# Altium footprint library Pcblib_20110825.Pcblib: 408 footprints (part 5 of 26)
Each footprint in its own frame and in the unit in brackets; x right, y up, seen from the top. Pads: shape width x height; smd on the part's side, far side on the other; paste and mask are expansions set on the pad; w line width, h text height; cw(c..) or ccw(c..) is an arc to the next point about the centre after c.
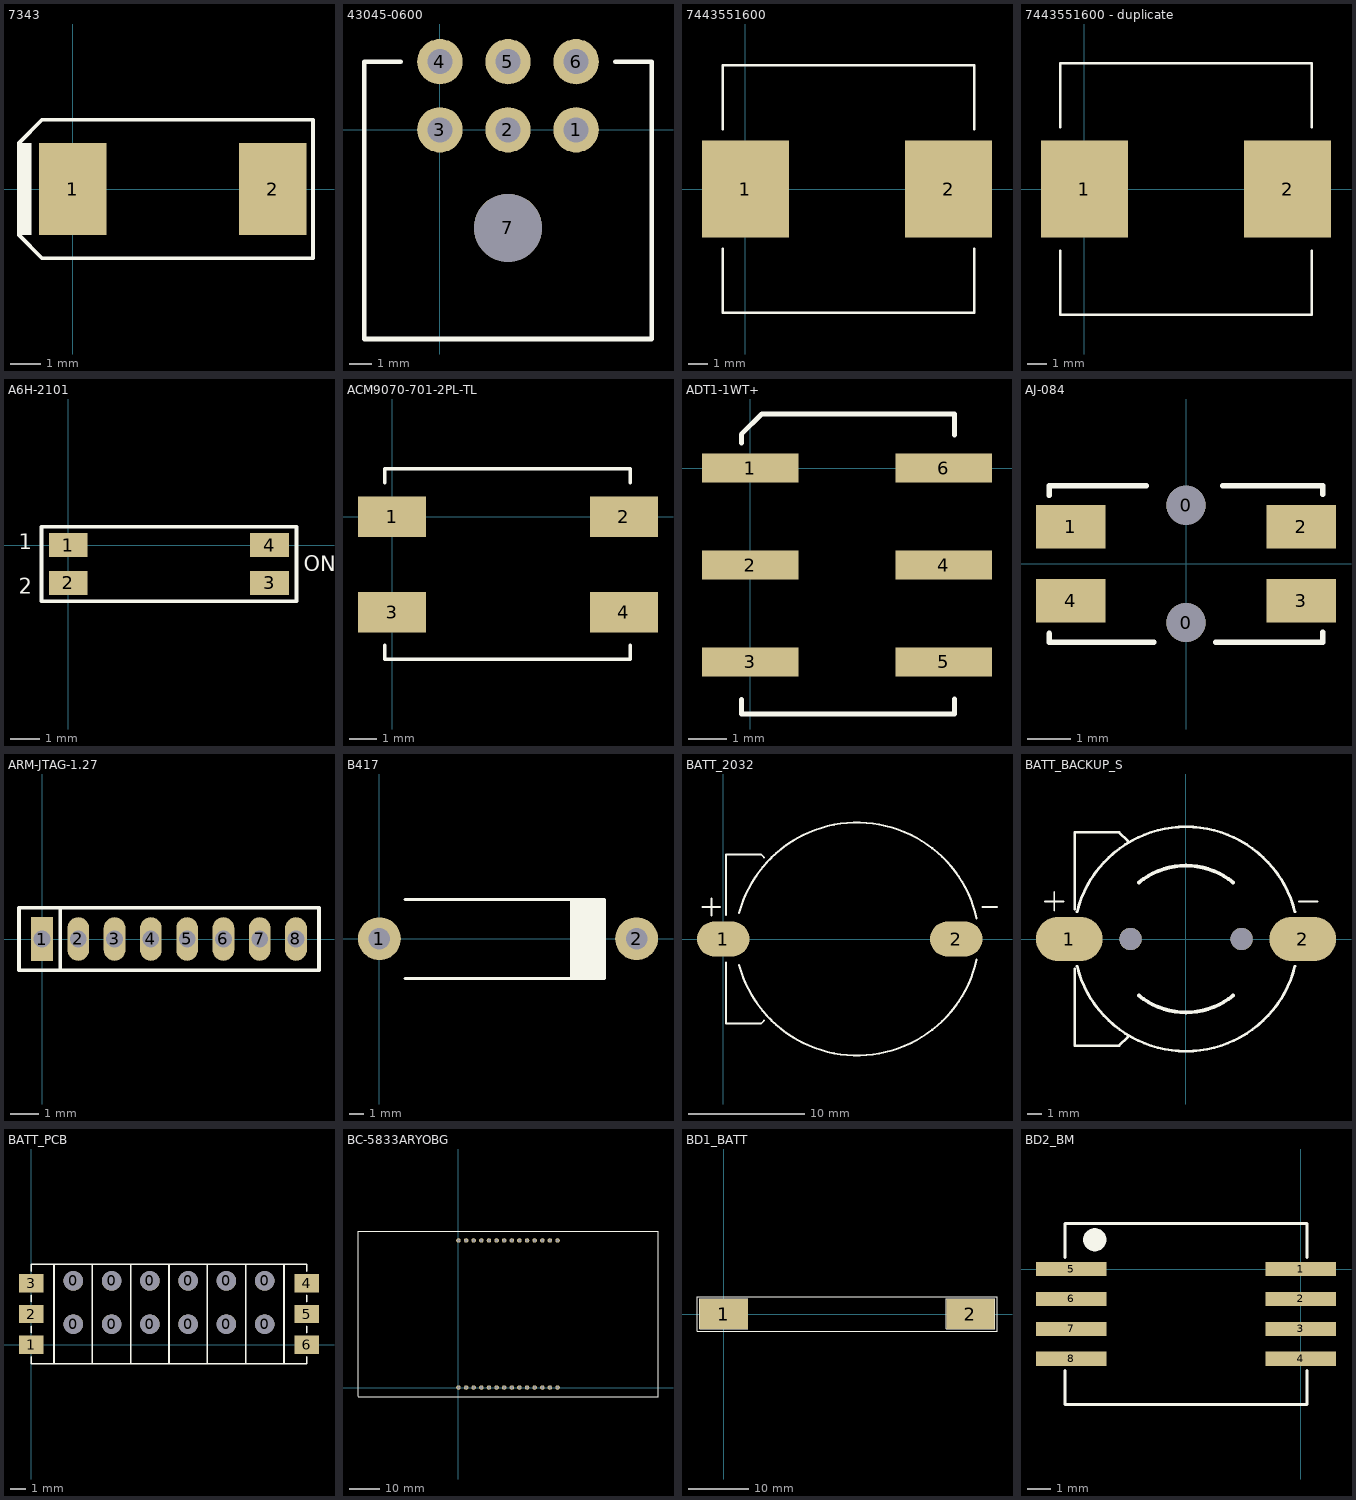
[diagram p4: the footprints below, top view; thin cyan lines are the x and y axes]

## 7343 [mm]
pads (2):
  rect 2.2x3 smd: 1(0,0) 2(6.5,0)
TopOverlay:
  rectangle: -1.75,-1.5 -1.35,1.5
  lines w0.127: -1.75,-1.5 -1,-2.25 7.8,-2.25 7.8,2.25 -1,2.25 -1.75,1.5 -1.75,-1.5

## 43045-0600 [mm]
pads (7):
  round 2 hole 1.1: 1(6,0) 2(3,0) 3(0,0) 4(0,3) 5(3,3) 6(6,3)
  round 3 hole 3: 7(3,-4.32)
TopOverlay:
  lines w0.2: -3.325,-7.544 -3.325,2.997 -1.727,2.997 ; -3.325,-7.493 -3.325,-9.22 9.325,-9.22 9.325,-5.156 ; 7.722,2.997 9.325,2.997 9.325,-5.715

## 7443551600 [mm]
pads (2):
  rect 4.5x5 smd: 1(0,0) 2(10.5,0)
TopOverlay:
  lines w0.127: -1.168,-3.073 -1.168,-6.401 11.832,-6.401 ; -1.168,3.073 -1.168,6.401 11.832,6.401 ; 11.836,-6.401 11.836,-3.073 ; 11.836,3.073 11.836,6.401

## 7443551600 - duplicate [mm]
pads (2):
  rect 4.5x5 smd: 1(0,0) 2(10.5,0)
TopOverlay:
  lines w0.127: -1.25,-3.195 -1.25,-6.5 11.75,-6.5 11.75,-3.195 ; -1.25,3.195 -1.25,6.5 11.75,6.5 11.75,3.195

## A6H-2101 [mm]
pads (4):
  rect 1.3x0.8 smd: 1(0,0) 2(0,-1.27) 3(6.75,-1.27) 4(6.75,0)
TopOverlay:
  lines w0.127: -0.9,-1.885 -0.9,0.615 7.65,0.615 7.65,-1.885 -0.9,-1.885
  text "1" at -1.65,-0.135 h0.51
  text "2" at -1.65,-1.635 h0.51
  text "ON" at 7.9,-0.885 h0.51

## ACM9070-701-2PL-TL [mm]
pads (4):
  rect 2.5x1.5 smd: 1(0,0) 2(8.5,0) 3(0,-3.5) 4(8.5,-3.5)
TopOverlay:
  lines w0.127: -0.262,-4.716 -0.262,-5.232 8.738,-5.232 8.738,-4.716 ; -0.262,1.251 -0.262,1.768 8.738,1.768 8.738,1.251

## ADT1-1WT+ [mm]
pads (6):
  rect 2.54x0.76 smd: 1(0,0) 2(0,-2.54) 3(0,-5.08) 4(5.08,-2.54) 5(5.08,-5.08) 6(5.08,0)
TopOverlay:
  lines w0.127: -0.229,-6.071 -0.229,-6.448 5.361,-6.448 5.361,-6.047 ; -0.229,0.66 -0.229,0.889 0.305,1.422 5.361,1.422 5.361,0.866

## AJ-084 [mm]
pads (6):
  round 0.9 hole 0.9: 0(0,-1.35) 0(0,1.35)
  rect 1.6x1 smd: 1(-2.65,0.85) 2(2.65,0.85) 3(2.65,-0.85) 4(-2.65,-0.85)
TopOverlay:
  lines w0.127: -0.918,1.8 -3.15,1.8 -3.15,1.575 ; -0.737,-1.803 -0.74,-1.8 -3.15,-1.8 -3.15,-1.601 ; 0.682,-1.8 3.15,-1.8 3.15,-1.575 ; 0.842,1.8 3.15,1.8 3.15,1.6 ; -3.15,-1.601 -3.15,-1.6 ; -3.15,1.575 -3.15,1.575

## ARM-JTAG-1.27 [mil]
pads (8):
  rect 30x60 hole 23: 1(0,0)
  oval 30x60 hole 23: 2(50,0) 3(100,0) 4(150,0) 5(200,0) 6(250,0) 7(300,0) 8(350,0)
TopOverlay:
  lines w5: 25,-43.31 25,43.31 ; -31.69,-43.31 381.69,-43.31 381.69,43.31 -31.69,43.31 -31.69,-43.31

## B417 [mm]
height 29
pads (2):
  round 3 hole 1.5: 1(0,0) 2(18,0)
TopOverlay:
  rectangle: 13.335,-2.794 15.748,2.75
  lines w0.203: 1.778,-2.794 15.748,-2.794 15.748,2.75 1.778,2.75

## BATT_2032 [mm]
pads (2):
  oval 4.5x3 smd: 1(0,0) 2(20,0)
TopOverlay:
  lines w0.152: -1.77,2.75 -0.25,2.75 ; -1,2 -1,3.5 ; 0.25,-2 0.25,-7.25 3.25,-7.25 3.5,-7 ; 0.25,2.05 0.25,7.25 3.25,7.25 3.5,7 ; 22.23,2.75 23.5,2.75
  lines w0.178: 1.358,-2.218 ccw(c11.5,0.5) 21.751,-1.773 ; 1.358,2.218 cw(c11.5,-0.5) 21.751,1.773

## BATT_BACKUP_S [mm]
pads (4):
  oval 4.5x3 smd: 1(-7.871,0.003) 2(7.877,0.003)
  round 1.5 / inner round 2 / far side round 1.5 hole 1.5 unplated: ""(-3.742,0.003) ""(3.758,0.003)
TopOverlay:
  lines w0.127: -9.522,2.543 -8.252,2.543 ; -8.887,1.908 -8.887,3.178 ; 7.623,2.543 8.893,2.543
  lines w0.178: -7.517,-1.997 -7.517,-7.197 -4.517,-7.197 -3.917,-6.597 ; -7.517,2.003 -7.517,7.203 -4.517,7.203 -3.917,6.603 ; -7.349,-1.83 ccw(c0.003,0.003) 7.356,-1.83 ; -7.349,1.836 cw(c0.003,0.003) 7.356,1.836
  lines w0.254: -3.172,-3.807 ccw(c0.003,0.031) 3.178,-3.807 ; -3.172,3.813 cw(c0.003,-0.025) 3.178,3.813

## BATT_PCB [mm]
pads (18):
  round 1.27 hole 1.27: 0(2.75,1.335) 0(2.75,4.165) 0(5.25,1.335) 0(5.25,4.165) 0(7.75,1.335) 0(7.75,4.165) 0(10.25,1.335) 0(10.25,4.165) 0(12.75,1.335) 0(12.75,4.165) 0(15.25,1.335) 0(15.25,4.165)
  rect 1.6x1.2 smd: 1(0,0) 2(0,2) 3(0,4) 4(18,4) 5(18,2) 6(18,0)
TopOverlay:
  lines w0.102: 4,0.35 4,5.25 ; 4,3.471 4,-1.247 4.003,-1.25 ; 6.5,-1.245 6.5,3.941 ; 6.5,0.35 6.5,5.25 ; 9,-1.24 9,2.67 ; 9,0.35 9,5.25 ; 11.5,-1.25 11.5,2.934 ; 11.5,0.35 11.5,5.25 ; 14,-1.236 14,4.305 ; 14,0.35 14,5.25
  lines w0.127: 0,-0.8 0,-1.25 18,-1.25 18,-0.8 ; 0,0.8 0,1.2 ; 0,2.8 0,3.2 ; 0,4.8 0,5.25 1.5,5.25 ; 1.5,-1.25 1.5,5.25 ; 16.5,-1.25 16.5,5.25 ; 18,0.8 18,1.2 ; 18,2.8 18,3.2 ; 18,4.8 18,5.25 1.5,5.25

## BC-5833ARYOBG [mm]
pads (28):
  round 1.5 hole 0.9: 1(0,0) 2(2.54,0) 3(5.08,0) 4(7.62,0) 5(10.16,0) 6(12.7,0) 7(15.24,0) 8(17.78,0) 9(20.32,0) 10(22.86,0) 11(25.4,0) 12(27.94,0) 13(30.48,0) 14(33.02,0) 15(33.02,49) 16(30.48,49) 17(27.94,49) 18(25.4,49) 19(22.86,49) 20(20.32,49) 21(17.78,49) 22(15.24,49) 23(12.7,49) 24(10.16,49) 25(7.62,49) 26(5.08,49) 27(2.54,49) 28(0,49)
TopOverlay:
  lines w0.127: -33.49,-3 66.51,-3 66.51,52 -33.49,52 -33.49,-2.997

## BD1_BATT [mm]
pads (2):
  rect 8x5 smd: 1(0,0) 2(40.95,0)
TopOverlay:
  lines w0.127: -4.45,-2.875 -4.45,2.825 45.35,2.825 45.35,-2.875 -4.45,-2.875 ; -4.034,-2.487 3.966,-2.487 3.966,2.513 -4.034,2.513 -4.034,-2.487 ; 36.966,-2.487 44.966,-2.487 44.966,2.513 36.966,2.513 36.966,-2.487

## BD2_BM [mm]
pads (9):
  rect 3x0.6 smd: 1(0,0) 2(0,-1.27) 3(0,-2.54) 4(0,-3.81) 5(-9.75,0) 6(-9.75,-1.27) 7(-9.75,-2.54) 8(-9.75,-3.81)
  round 1 on Top Overlay: ""(-8.75,1.25)
TopOverlay:
  lines w0.127: -10.025,-4.3 -10.025,-5.759 0.275,-5.759 0.275,-4.3 ; -10.025,0.5 -10.025,1.941 0.275,1.941 0.275,0.5